# EAGLE library part LTC4090-POLY (library JLB6_power)
LTC4090 bat charger+reg+powerpath pad=polygon
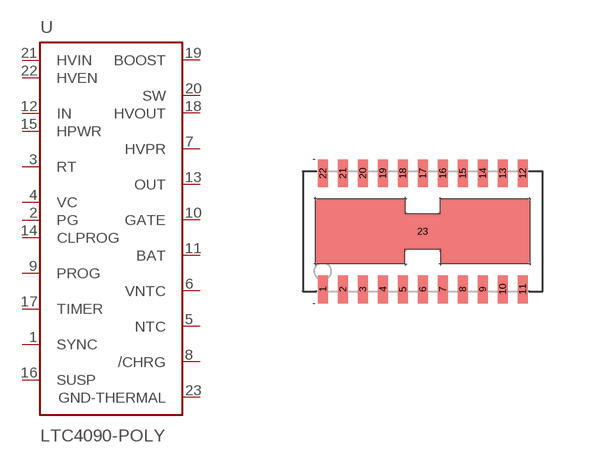
[diagram p9: symbol with the pads of DFN22; footprint DFN22]

Designator prefix U

## LTC4090-POLY  [DFN22]
1  SYNC  in
2  PG  out
3  RT  pas
4  VC  pas
5  NTC  in
6  VNTC  pwr
7  HVPR  out
8  /CHRG
9  PROG  out
10  GATE  out
11  BAT  pwr
12  IN  pas
13  OUT
14  CLPROG  in
15  HPWR  pas
16  SUSP  in
17  TIMER
18  HVOUT  in
19  BOOST  in
20  SW  pas
21  HVIN  pwr
22  HVEN  in
23  GND-THERMAL  pwr

## Footprint DFN22 (pad centres in mm)
smd 0.25 x 0.7: 1 -2.5,-1.45; 2 -2,-1.45; 3 -1.5,-1.45; 4 -1,-1.45; 5 -0.5,-1.45; 6 0,-1.45; 7 0.5,-1.45; 8 1,-1.45; 9 1.5,-1.45; 10 2,-1.45; 11 2.5,-1.45; 12 2.5,1.45; 13 2,1.45; 14 1.5,1.45; 15 1,1.45; 16 0.5,1.45; 17 0,1.45; 18 -0.5,1.45; 19 -1,1.45; 20 -1.5,1.45; 21 -2,1.45; 22 -2.5,1.45
smd 0.7 x 0.25: 23 0,0